# Altium schematic symbol library RJ45.SchLib: 2 symbols
Pins are listed as number, name and electrical type; pins without a type are passive.

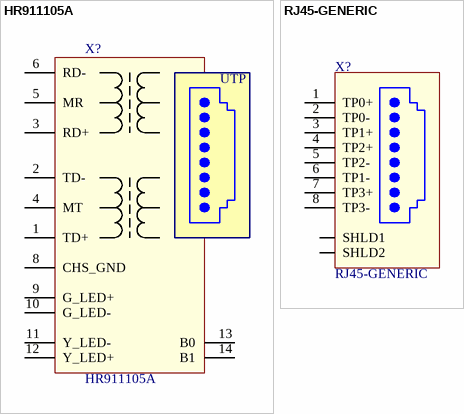
[diagram p0: symbols HR911105A to RJ45-GENERIC]

## HR911105A
designator X?
Value: HR911105A
footprint HR9111xxA (RJ45 Connector with integrated magnetics)
pins: 1 TD+, 2 TD-, 3 RD+, 4 MT, 5 MR, 6 RD-, 8 CHS_GND, 9 G_LED+, 10 G_LED-, 11 Y_LED-, 12 Y_LED+, 13 B0, 14 B1
text: UTP

## RJ45-GENERIC
designator X?
External Shield PCB Jack
footprint TJ16S-8P8C
pins: 1 TP0+, 2 TP0-, 3 TP1+, 4 TP2+, 5 TP2-, 6 TP1-, 7 TP3+, 8 TP3-, SHLD1, SHLD2